# Altium schematic symbol library ADM232AARNZ.SchLib: 1 symbol
Pins are listed as number, name and electrical type; pins without a type are passive.

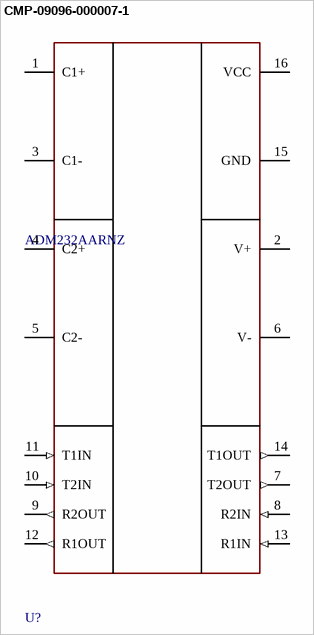
[diagram p0: symbol CMP-09096-000007-1]

## CMP-09096-000007-1
designator U?, comment ADM232AARNZ
IC TRANSCEIVER FULL 2/2 16SOIC; Manufacturer: Analog Devices; Number Of Receivers: 2; Interface: RS-232; Nominal Supply Current: 4-13mA; Data Rate: 200kBytes/s; Simplex Duplex: Full Duplex; Min Supply Voltage: 4.5V; Max Supply Voltage: 5.5V; Standoff Height: 0.1mm; Digikey Description: IC TRANSCEIVER FULL 2/2 16SOIC; ComponentLink2Description: Datasheet; ComponentLink2URL: https://www.analog.com/media/en/technical-documentation/data-sheets/ADM222_232A_242.pdf; Device Class L3: RS-232 / RS-422 / RS-485 Interface ICs; Temperature: -40°C to +85°C; Mouser Description: RS-232 Interface IC Hi-Spd 5V CMOS Driver/Receiver; Lead Free: Yes; RoHS: TRUE; Automotive: No; Octopart: https://octopart.com/adm232aarnz-analog+devices-501681; Number Of Transmitters: 2; Package: R-16; Temperature Range Low: -40°C; Height: 1.75mm; Ipc Land Pattern Name: SOIC127P600X155-16; Device Class L1: Integrated Circuits (ICs); Manufacturer Part Number: ADM232AARNZ; Temperature Range High: +85°C; Category: IC; Device Class L2: Interface ICs
footprint FP-R-16-IPC_A
pins: 1 C1+, 2 V+, 3 C1-, 4 C2+, 5 C2-, 6 V-, 7 T2OUT (out), 8 R2IN (in), 9 R2OUT (out), 10 T2IN (in), 11 T1IN (in), 12 R1OUT (out), 13 R1IN (in), 14 T1OUT (out), 15 GND (power), 16 VCC (power)